# Altium footprint library EPC_2021Q2b.PcbLib: 28 footprints (part 2 of 2)
Each footprint in its own frame and in the unit in brackets; x right, y up, seen from the top. Pads: shape width x height; smd on the part's side, far side on the other; paste and mask are expansions set on the pad; w line width, h text height; cw(c..) or ccw(c..) is an arc to the next point about the centre after c.
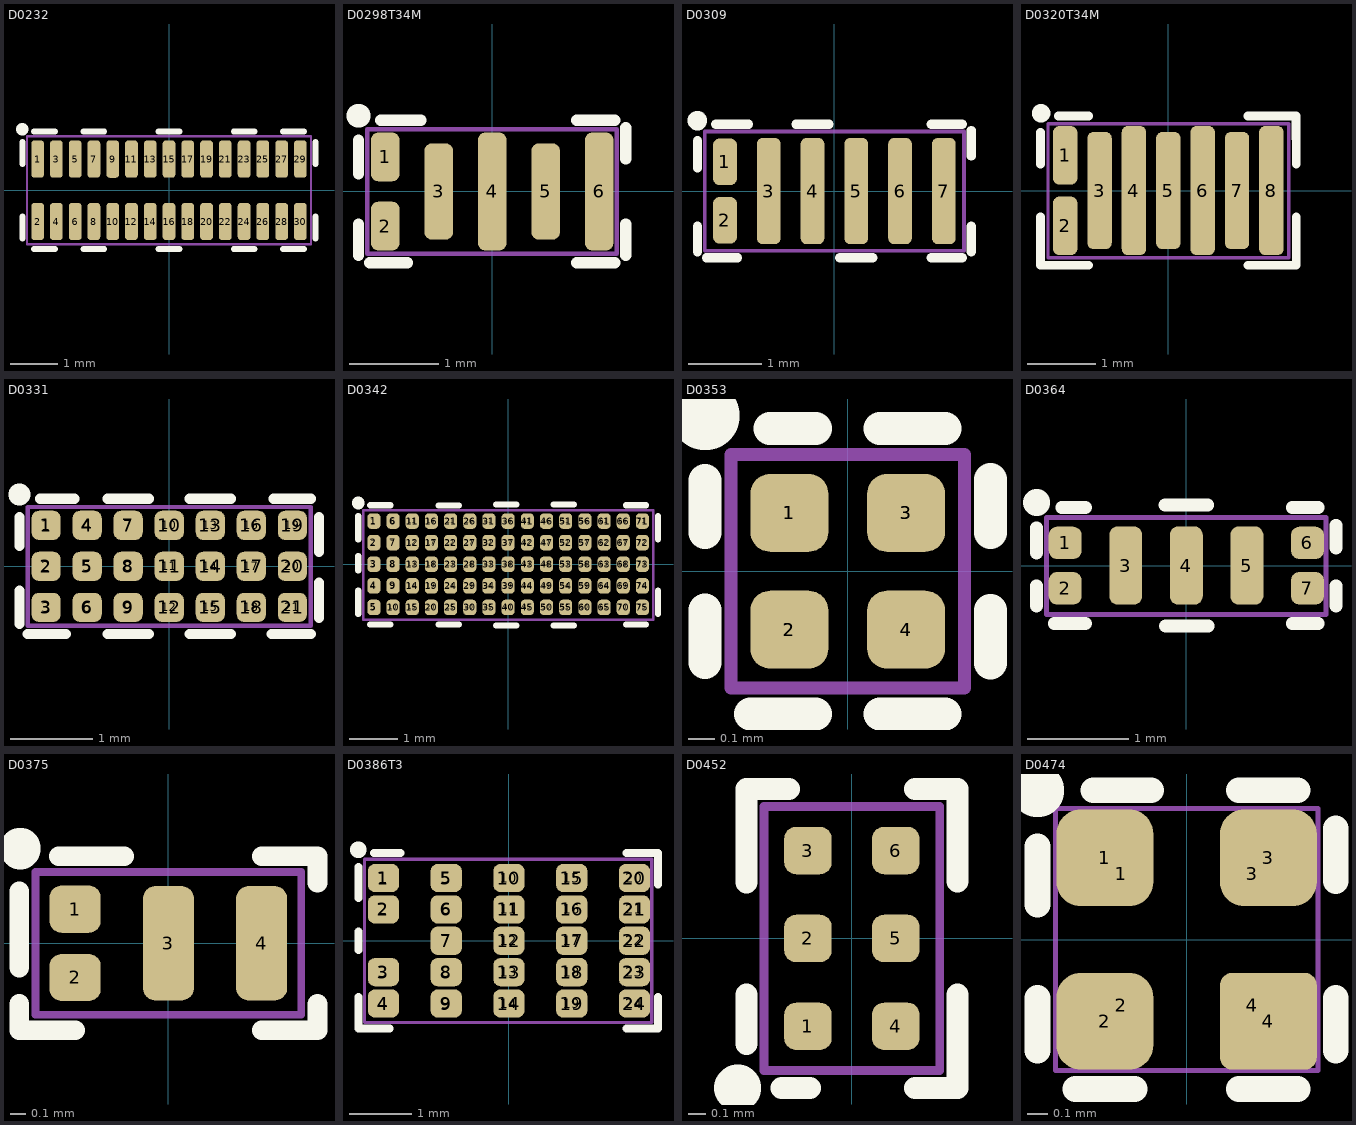
[diagram p1: the footprints below, top view; thin cyan lines are the x and y axes]

## D0232 [mm] "Gen 4 XL Die"
height 0.8
pads (60):
  rrect50% 0.27x0.794 smd paste-0.037 mask-0.274: 1(-2.8,0.665) 2(-2.8,-0.665) 3(-2.4,0.665) 4(-2.4,-0.665) 5(-2,0.665) 7(-1.6,0.665) 8(-1.6,-0.665) 10(-1.2,-0.665) 11(-0.8,0.665) 12(-0.8,-0.665) 13(-0.4,0.665) 14(-0.4,-0.665) 15(0,0.665) 16(0,-0.665) 17(0.4,0.665) 18(0.4,-0.665) 19(0.8,0.665) 20(0.8,-0.665) 21(1.2,0.665) 22(1.2,-0.665) 23(1.6,0.665) 24(1.6,-0.665) 25(2,0.665) 26(2,-0.665) 27(2.4,0.665) 28(2.4,-0.665) 29(2.8,0.665) 30(2.8,-0.665)
  rrect50% 0.27x0.794 smd paste-0.037 mask-0.24: 6(-2,-0.665)
  rrect50% 0.27x0.795 smd paste-0.037 mask-0.274: 9(-1.2,0.665)
  oval 0.18x0.7 on Top Solder paste-0.18 mask+0: ""(-2.8,0.665) ""(-2.8,-0.665) ""(-2.4,0.665) ""(-2.4,-0.665) ""(-2,0.665) ""(-2,-0.665) ""(-1.6,0.665) ""(-1.6,-0.665) ""(-1.2,0.665) ""(-1.2,-0.665) ""(-0.8,0.665) ""(-0.8,-0.665) ""(-0.4,0.665) ""(-0.4,-0.665) ""(0,0.665) ""(0,-0.665) ""(0.4,0.665) ""(0.4,-0.665) ""(0.8,0.665) ""(0.8,-0.665) ""(1.2,0.665) ""(1.2,-0.665) ""(1.6,0.665) ""(1.6,-0.665) ""(2,0.665) ""(2,-0.665) ""(2.4,0.665) ""(2.4,-0.665) ""(2.8,0.665) ""(2.8,-0.665)
Top Overlay:
  circle w0.254: c-3.125,1.3 r0.006
  lines w0.127: -3.125,-1.025 -3.125,-0.56 ; -3.125,0.56 -3.125,1.025 ; -2.874,-1.25 -2.433,-1.25 ; -2.874,1.25 -2.433,1.25 ; -1.82,-1.251 -1.38,-1.251 ; -1.82,1.252 -1.38,1.252 ; -0.22,-1.251 0.22,-1.251 ; -0.22,1.252 0.22,1.252 ; 1.38,-1.251 1.82,-1.251 ; 1.38,1.252 1.82,1.252 ; 2.433,-1.25 2.874,-1.25 ; 2.433,1.25 2.874,1.25 ; 3.125,-1.025 3.125,-0.56 ; 3.125,0.56 3.125,1.025
Mechanical 13:
  lines w0.05: -3.025,-1.15 -3.025,1.15 3.025,1.15 3.025,-1.15 -3.025,-1.15
3D body: height 0.79, standoff 0.78, extent -2.949,0.515 -2.65,0.815
3D body: height 0.2, standoff 0, extent -2.905,-0.925 -2.696,-0.405
3D body: height 0.2, standoff 0, extent -2.897,-1.024 -2.703,-0.827
3D body: height 0.2, standoff 0, extent -2.897,-0.504 -2.703,-0.307
3D body: height 0.2, standoff 0, extent -2.497,-0.504 -2.303,-0.307
3D body: height 0.2, standoff 0, extent -2.497,-1.024 -2.303,-0.827
3D body: height 0.2, standoff 0, extent -2.505,-0.925 -2.296,-0.405
3D body: height 0.2, standoff 0, extent -2.097,-0.504 -1.903,-0.307
3D body: height 0.2, standoff 0, extent -2.097,-1.024 -1.903,-0.827
3D body: height 0.2, standoff 0, extent -2.105,-0.925 -1.896,-0.405
3D body: height 0.2, standoff 0, extent -1.697,-0.504 -1.503,-0.307
3D body: height 0.2, standoff 0, extent -1.697,-1.024 -1.503,-0.827
3D body: height 0.2, standoff 0, extent -1.705,-0.925 -1.496,-0.405
3D body: height 0.2, standoff 0, extent -1.297,-0.504 -1.103,-0.307
3D body: height 0.2, standoff 0, extent -1.297,-1.024 -1.103,-0.827
3D body: height 0.2, standoff 0, extent -1.305,-0.925 -1.096,-0.405
3D body: height 0.2, standoff 0, extent -0.897,-0.504 -0.703,-0.307
3D body: height 0.2, standoff 0, extent -0.897,-1.024 -0.703,-0.827
3D body: height 0.2, standoff 0, extent -0.905,-0.925 -0.696,-0.405
3D body: height 0.2, standoff 0, extent -0.497,-0.504 -0.303,-0.307
3D body: height 0.2, standoff 0, extent -0.497,-1.024 -0.303,-0.827
3D body: height 0.2, standoff 0, extent -0.505,-0.925 -0.296,-0.405
3D body: height 0.2, standoff 0, extent -0.097,-0.504 0.097,-0.307
3D body: height 0.2, standoff 0, extent -0.097,-1.024 0.097,-0.827
3D body: height 0.2, standoff 0, extent -0.105,-0.925 0.104,-0.405
3D body: height 0.2, standoff 0, extent 0.303,-0.504 0.497,-0.307
3D body: height 0.2, standoff 0, extent 0.303,-1.024 0.497,-0.827
3D body: height 0.2, standoff 0, extent 0.295,-0.925 0.504,-0.405
3D body: height 0.2, standoff 0, extent 0.703,-0.504 0.897,-0.307
3D body: height 0.2, standoff 0, extent 0.703,-1.024 0.897,-0.827
3D body: height 0.2, standoff 0, extent 0.695,-0.925 0.904,-0.405
3D body: height 0.2, standoff 0, extent 1.503,-0.504 1.697,-0.307
3D body: height 0.2, standoff 0, extent 1.503,-1.024 1.697,-0.827
3D body: height 0.2, standoff 0, extent 1.495,-0.925 1.704,-0.405
3D body: height 0.2, standoff 0, extent 1.103,-0.504 1.297,-0.307
3D body: height 0.2, standoff 0, extent 1.103,-1.024 1.297,-0.827
3D body: height 0.2, standoff 0, extent 1.095,-0.925 1.304,-0.405
3D body: height 0.2, standoff 0, extent 1.903,-0.504 2.097,-0.307
3D body: height 0.2, standoff 0, extent 1.903,-1.024 2.097,-0.827
3D body: height 0.2, standoff 0, extent 1.895,-0.925 2.104,-0.405
3D body: height 0.2, standoff 0, extent 2.303,-0.504 2.497,-0.307
3D body: height 0.2, standoff 0, extent 2.303,-1.024 2.497,-0.827
3D body: height 0.2, standoff 0, extent 2.295,-0.925 2.504,-0.405
3D body: height 0.2, standoff 0, extent 2.703,-0.504 2.897,-0.307
3D body: height 0.2, standoff 0, extent 2.703,-1.024 2.897,-0.827
3D body: height 0.2, standoff 0, extent 2.695,-0.925 2.904,-0.405
3D body: height 0.2, standoff 0, extent 2.695,0.405 2.904,0.925
3D body: height 0.2, standoff 0, extent 2.703,0.306 2.897,0.503
3D body: height 0.2, standoff 0, extent 2.703,0.826 2.897,1.023
3D body: height 0.2, standoff 0, extent 2.295,0.405 2.504,0.925
3D body: height 0.2, standoff 0, extent 2.303,0.306 2.497,0.503
3D body: height 0.2, standoff 0, extent 2.303,0.826 2.497,1.023
3D body: height 0.2, standoff 0, extent 1.895,0.405 2.104,0.925
3D body: height 0.2, standoff 0, extent 1.903,0.306 2.097,0.503
3D body: height 0.2, standoff 0, extent 1.903,0.826 2.097,1.023
3D body: height 0.2, standoff 0, extent 1.095,0.405 1.304,0.925
3D body: height 0.2, standoff 0, extent 1.103,0.306 1.297,0.503
3D body: height 0.2, standoff 0, extent 1.103,0.826 1.297,1.023
3D body: height 0.2, standoff 0, extent 1.495,0.405 1.704,0.925
3D body: height 0.2, standoff 0, extent 1.503,0.306 1.697,0.503
3D body: height 0.2, standoff 0, extent 1.503,0.826 1.697,1.023
3D body: height 0.2, standoff 0, extent 0.695,0.405 0.904,0.925
3D body: height 0.2, standoff 0, extent 0.703,0.306 0.897,0.503
3D body: height 0.2, standoff 0, extent 0.703,0.826 0.897,1.023
3D body: height 0.2, standoff 0, extent 0.295,0.405 0.504,0.925
3D body: height 0.2, standoff 0, extent 0.303,0.306 0.497,0.503
3D body: height 0.2, standoff 0, extent 0.303,0.826 0.497,1.023
3D body: height 0.2, standoff 0, extent -0.105,0.405 0.104,0.925
3D body: height 0.2, standoff 0, extent -0.097,0.306 0.097,0.503
3D body: height 0.2, standoff 0, extent -0.097,0.826 0.097,1.023
3D body: height 0.2, standoff 0, extent -0.505,0.405 -0.296,0.925
3D body: height 0.2, standoff 0, extent -0.497,0.306 -0.303,0.503
3D body: height 0.2, standoff 0, extent -0.497,0.826 -0.303,1.023
3D body: height 0.2, standoff 0, extent -0.905,0.405 -0.696,0.925
3D body: height 0.2, standoff 0, extent -0.897,0.306 -0.703,0.503
3D body: height 0.2, standoff 0, extent -0.897,0.826 -0.703,1.023
3D body: height 0.2, standoff 0, extent -1.305,0.405 -1.096,0.925
3D body: height 0.2, standoff 0, extent -1.297,0.306 -1.103,0.503
3D body: height 0.2, standoff 0, extent -1.297,0.826 -1.103,1.023
3D body: height 0.2, standoff 0, extent -1.705,0.405 -1.496,0.925
3D body: height 0.2, standoff 0, extent -1.697,0.306 -1.503,0.503
3D body: height 0.2, standoff 0, extent -1.697,0.826 -1.503,1.023
3D body: height 0.2, standoff 0, extent -2.105,0.405 -1.896,0.925
3D body: height 0.2, standoff 0, extent -2.097,0.306 -1.903,0.503
3D body: height 0.2, standoff 0, extent -2.097,0.826 -1.903,1.023
3D body: height 0.2, standoff 0, extent -2.505,0.405 -2.296,0.925
3D body: height 0.2, standoff 0, extent -2.497,0.306 -2.303,0.503
3D body: height 0.2, standoff 0, extent -2.497,0.826 -2.303,1.023
3D body: height 0.2, standoff 0, extent -2.897,0.826 -2.703,1.023
3D body: height 0.2, standoff 0, extent -2.897,0.306 -2.703,0.503
3D body: height 0.2, standoff 0, extent -2.905,0.405 -2.696,0.925
3D body: height 0.78, standoff 0.1, extent -3.025,-1.154 3.025,1.155

## D0298T34M [mm] "EPC2059"
height 0.638
pads (18):
  rrect50% 0.321x0.546 smd paste-1 mask-1: 1(-1.2,0.387) 2(-1.2,-0.387)
  rrect50% 0.321x1.081 smd paste-1 mask-1: 3(-0.6,0) 5(0.6,0)
  rrect50% 0.321x1.321 smd paste-1 mask-1: 4(0,0) 6(1.2,0)
  rrect50% 0.25x0.475 on Top Paste paste-1 mask-1: ""(-1.2,-0.387) ""(-1.2,0.387)
  rrect50% 0.25x0.475 on Top Solder paste-1 mask-1: ""(-1.2,-0.387) ""(-1.2,0.387)
  rrect50% 0.25x1.01 on Top Solder paste-1 mask-1: ""(-0.6,0) ""(0.6,0)
  rrect50% 0.25x1.01 on Top Paste paste-1 mask-1: ""(-0.6,0) ""(0.6,0)
  rrect50% 0.25x1.25 on Top Solder paste-1 mask-1: ""(0,0) ""(1.2,0)
  rrect50% 0.25x1.25 on Top Paste paste-1 mask-1: ""(0,0) ""(1.2,0)
Top Overlay:
  circle w0.254: c-1.5,0.85 r0.006
  lines w0.127: -1.5,-0.715 -1.5,-0.365 ; -1.5,0.2 -1.5,0.575 ; -1.375,-0.8 -0.95,-0.8 ; -1.25,0.8 -0.8,0.8 ; 0.95,-0.8 1.375,-0.8 ; 0.95,0.8 1.375,0.8 ; 1.5,-0.715 1.5,-0.365 ; 1.5,0.365 1.5,0.715
Mechanical 13:
  lines w0.05: -1.4,-0.7 1.4,-0.7 1.4,0.7 -1.4,0.7 -1.4,-0.7
3D body: height 0.25, standoff 0, extent -0.721,0.257 -0.479,0.503
3D body: height 0.25, standoff 0, extent -0.721,-0.503 -0.479,-0.257
3D body: height 0.25, standoff 0, extent -0.725,-0.38 -0.476,0.38
3D body: height 0.25, standoff 0, extent -1.321,0.366 -1.079,0.612
3D body: height 0.25, standoff 0, extent -1.321,0.141 -1.079,0.387
3D body: height 0.25, standoff 0, extent -1.325,0.264 -1.076,0.489
3D body: height 0.25, standoff 0, extent -1.325,-0.5 -1.076,-0.275
3D body: height 0.25, standoff 0, extent -1.321,-0.623 -1.079,-0.377
3D body: height 0.25, standoff 0, extent -1.321,-0.398 -1.079,-0.152
3D body: height 0.64, standoff 0.64, extent -1.325,0.375 -1.076,0.625
3D body: height 0.64, standoff 0.12, extent -1.4,-0.7 1.4,0.7
3D body: height 0.25, standoff 0, extent -0.125,-0.5 0.124,0.5
3D body: height 0.25, standoff 0, extent -0.121,-0.623 0.121,-0.377
3D body: height 0.25, standoff 0, extent -0.121,0.377 0.121,0.623
3D body: height 0.25, standoff 0, extent 1.079,0.377 1.321,0.623
3D body: height 0.25, standoff 0, extent 1.079,-0.623 1.321,-0.377
3D body: height 0.25, standoff 0, extent 1.075,-0.5 1.324,0.5
3D body: height 0.25, standoff 0, extent 0.475,-0.38 0.724,0.38
3D body: height 0.25, standoff 0, extent 0.479,-0.503 0.721,-0.257
3D body: height 0.25, standoff 0, extent 0.479,0.257 0.721,0.503

## D0309 [mm]
height 0.8
pads (14):
  rrect50% 0.325x0.635 smd paste-0.048 mask-0.325: 1(-1.5,0.401) 2(-1.5,-0.401)
  rrect50% 0.325x1.457 smd paste-0.048 mask-0.325: 3(-0.9,0) 4(-0.3,0) 5(0.3,0) 6(0.9,0) 7(1.5,0)
  oval 0.23x0.56 on Top Solder: ""(-1.5,-0.401) ""(-1.5,0.401)
  oval 0.23x1.362 on Top Solder: ""(-0.9,0) ""(-0.3,0) ""(0.3,0) ""(0.9,0) ""(1.5,0)
Top Overlay:
  circle w0.254: c-1.877,0.966 r0.006
  lines w0.127: -1.877,-0.831 -1.877,-0.481 ; -1.877,0.316 -1.877,0.691 ; -1.752,-0.916 -1.327,-0.916 ; -1.627,0.916 -1.177,0.916 ; -0.525,0.916 -0.075,0.916 ; 0.075,-0.916 0.525,-0.916 ; 1.327,-0.916 1.752,-0.916 ; 1.327,0.916 1.752,0.916 ; 1.877,-0.831 1.877,-0.481 ; 1.877,0.481 1.877,0.831
Mechanical 13:
  lines w0.05: -1.777,-0.816 1.777,-0.816 1.777,0.816 -1.777,0.816 -1.777,-0.816
3D body: height 0.25, standoff 0, extent -1.621,0.444 -1.379,0.69
3D body: height 0.25, standoff 0, extent -1.621,0.114 -1.379,0.36
3D body: height 0.25, standoff 0, extent -1.625,0.237 -1.376,0.567
3D body: height 0.25, standoff 0, extent -1.625,-0.565 -1.376,-0.235
3D body: height 0.25, standoff 0, extent -1.621,-0.688 -1.379,-0.442
3D body: height 0.25, standoff 0, extent -1.621,-0.358 -1.379,-0.112
3D body: height 0.25, standoff 0, extent -0.421,0.443 -0.179,0.689
3D body: height 0.25, standoff 0, extent -0.421,-0.689 -0.179,-0.443
3D body: height 0.25, standoff 0, extent -0.425,-0.566 -0.176,0.566
3D body: height 0.78, standoff 0.1, extent -1.775,-0.825 1.775,0.825
3D body: height 0.79, standoff 0.78, extent -1.649,0.251 -1.35,0.551
3D body: height 0.25, standoff 0, extent 0.175,-0.566 0.424,0.566
3D body: height 0.25, standoff 0, extent 0.179,-0.689 0.421,-0.443
3D body: height 0.25, standoff 0, extent 0.179,0.443 0.421,0.689
3D body: height 0.25, standoff 0, extent 0.775,-0.566 1.024,0.566
3D body: height 0.25, standoff 0, extent 0.779,-0.689 1.021,-0.443
3D body: height 0.25, standoff 0, extent 0.779,0.443 1.021,0.689
3D body: height 0.25, standoff 0, extent 1.375,-0.566 1.624,0.566
3D body: height 0.25, standoff 0, extent 1.379,-0.689 1.621,-0.443
3D body: height 0.25, standoff 0, extent 1.379,0.443 1.621,0.689
3D body: height 0.25, standoff 0, extent -1.025,-0.566 -0.776,0.566
3D body: height 0.25, standoff 0, extent -1.021,-0.689 -0.779,-0.443
3D body: height 0.25, standoff 0, extent -1.021,0.443 -0.779,0.689

## D0320T34M [mm]
height 0.638
pads (24):
  rrect50% 0.355x0.85 smd paste-1 mask-1: 1(-1.5,0.513) 2(-1.5,-0.513)
  rrect50% 0.355x1.705 smd paste-1 mask-1: 3(-1,0) 5(0,0) 7(1,0)
  rrect50% 0.355x1.88 smd paste-1 mask-1: 4(-0.5,0) 6(0.5,0) 8(1.5,0)
  oval 0.23x0.755 on Top Solder mask-1: ""(-1.5,-0.513) ""(-1.5,0.513)
  rrect50% 0.23x0.755 on Top Paste mask-1: ""(-1.5,-0.513) ""(-1.5,0.513)
  oval 0.23x1.605 on Top Solder mask-1: ""(-1,0) ""(0,0) ""(1,0)
  rrect50% 0.23x1.605 on Top Paste mask-1: ""(-1,0) ""(0,0) ""(1,0)
  oval 0.23x1.78 on Top Solder mask-1: ""(-0.5,0) ""(0.5,0) ""(1.5,0)
  rrect50% 0.23x1.78 on Top Paste mask-1: ""(-0.5,0) ""(0.5,0) ""(1.5,0)
Top Overlay:
  circle w0.254: c-1.85,1.125 r0.006
  lines w0.127: -1.86,-0.385 -1.86,-1.085 -1.16,-1.085 ; -1.86,0.385 -1.86,0.85 ; -1.599,1.085 -1.158,1.085 ; 1.16,-1.085 1.86,-1.085 1.86,-0.385 ; 1.16,1.085 1.86,1.085 ; 1.858,1.085 1.86,0.385
Mechanical 13:
  lines w0.05: -1.75,-0.975 1.75,-0.975 1.75,0.975 -1.75,0.975 -1.75,-0.975
3D body "3D_EPClogo3mm.step": height 0.64, standoff 0.64, extent -1.394,-0.65 1.594,0.699
3D body: height 0.25, standoff 0, extent -1.625,-0.775 -1.376,-0.251
3D body: height 0.25, standoff 0, extent -1.621,-0.899 -1.379,-0.652
3D body: height 0.25, standoff 0, extent -1.621,-0.374 -1.379,-0.127
3D body: height 0.65, standoff 0.64, extent -1.649,0.6 -1.351,0.9
3D body: height 0.25, standoff 0, extent -1.621,0.652 -1.379,0.899
3D body: height 0.25, standoff 0, extent -1.621,0.127 -1.379,0.374
3D body: height 0.25, standoff 0, extent -1.625,0.251 -1.376,0.775
3D body: height 0.25, standoff 0, extent -1.121,0.565 -0.879,0.811
3D body: height 0.25, standoff 0, extent -1.121,-0.811 -0.879,-0.565
3D body: height 0.25, standoff 0, extent -1.125,-0.688 -0.876,0.687
3D body: height 0.25, standoff 0, extent -0.625,-0.775 -0.376,0.775
3D body: height 0.25, standoff 0, extent -0.621,-0.898 -0.379,-0.652
3D body: height 0.25, standoff 0, extent -0.621,0.652 -0.379,0.898
3D body: height 0.25, standoff 0, extent 0.379,0.652 0.621,0.898
3D body: height 0.25, standoff 0, extent 0.379,-0.898 0.621,-0.652
3D body: height 0.25, standoff 0, extent 0.375,-0.775 0.624,0.775
3D body: height 0.25, standoff 0, extent -0.125,-0.688 0.124,0.687
3D body: height 0.25, standoff 0, extent -0.121,-0.811 0.121,-0.565
3D body: height 0.25, standoff 0, extent -0.121,0.565 0.121,0.811
3D body: height 0.25, standoff 0, extent 1.379,0.652 1.621,0.898
3D body: height 0.25, standoff 0, extent 1.379,-0.898 1.621,-0.652
3D body: height 0.25, standoff 0, extent 1.375,-0.775 1.624,0.775
3D body: height 0.25, standoff 0, extent 0.875,-0.688 1.124,0.687
3D body: height 0.25, standoff 0, extent 0.879,-0.811 1.121,-0.565
3D body: height 0.25, standoff 0, extent 0.879,0.565 1.121,0.811
3D body: height 0.64, standoff 0.12, extent -1.75,-0.975 1.75,0.975
3D body: height 0.25, standoff 0, extent -0.663,1.85 -0.663,1.85
3D body: height 0.25, standoff 0, extent -0.663,1.85 -0.663,1.85

## D0331 [mm] "Gen 5 100 V HB"
height 0.8
pads (42):
  rrect50% 0.355x0.355 smd paste-0.04 mask-0.17: 1(-1.5,0.5) 2(-1.5,0) 3(-1.5,-0.5) 4(-1,0.5) 5(-1,0) 6(-1,-0.5) 7(-0.5,0.5) 8(-0.5,0) 9(-0.5,-0.5) 10(0,0.5) 11(0,0) 12(0,-0.5) 13(0.5,0.5) 14(0.5,0) 15(0.5,-0.5) 16(1,0.5) 17(1,0) 18(1,-0.5) 19(1.5,0.5) 20(1.5,0) 21(1.5,-0.5)
  round 0.23 on Top Solder paste+0 mask+0: 1(-1.5,0.5) 2(-1.5,0) 3(-1.5,-0.5) 4(-1,0.5) 5(-1,0) 6(-1,-0.5) 7(-0.5,0.5) 8(-0.5,0) 9(-0.5,-0.5) 10(0,0.5) 11(0,0) 12(0,-0.5) 13(0.5,0.5) 14(0.5,0) 15(0.5,-0.5) 16(1,0.5) 17(1,0) 18(1,-0.5) 19(1.5,0.5) 20(1.5,0) 21(1.5,-0.5)
Top Overlay:
  circle w0.254: c-1.825,0.875 r0.006
  lines w0.127: -1.825,-0.7 -1.825,-0.3 ; -1.825,0.25 -1.825,0.6 ; -1.725,-0.825 -1.26,-0.825 ; -1.575,0.825 -1.154,0.825 ; -0.75,-0.825 -0.25,-0.825 ; -0.75,0.825 -0.25,0.825 ; 0.25,-0.825 0.75,-0.825 ; 0.25,0.825 0.75,0.825 ; 1.25,-0.825 1.725,-0.825 ; 1.275,0.825 1.725,0.825 ; 1.825,-0.625 1.825,-0.2 ; 1.825,0.175 1.825,0.6
Mechanical 13:
  lines w0.05: -1.725,-0.725 1.725,-0.725 1.725,0.725 -1.725,0.725 -1.725,-0.725
3D body: height 0.26, standoff -0.01, extent -1.629,-0.65 -1.362,-0.38
3D body: height 0.2, standoff 0.13, extent -1.637,-0.653 -1.362,-0.377
3D body: height 0.26, standoff -0.01, extent -1.629,-0.15 -1.362,0.12
3D body: height 0.2, standoff 0.13, extent -1.637,-0.153 -1.362,0.123
3D body: height 0.26, standoff -0.01, extent -1.629,0.35 -1.362,0.62
3D body: height 0.2, standoff 0.13, extent -1.637,0.347 -1.362,0.623
3D body: height 0.26, standoff -0.01, extent -1.129,-0.65 -0.862,-0.38
3D body: height 0.2, standoff 0.13, extent -1.137,-0.653 -0.862,-0.377
3D body: height 0.26, standoff -0.01, extent -1.129,-0.15 -0.862,0.12
3D body: height 0.2, standoff 0.13, extent -1.137,-0.153 -0.862,0.123
3D body: height 0.26, standoff -0.01, extent -1.129,0.35 -0.862,0.62
3D body: height 0.2, standoff 0.13, extent -1.137,0.347 -0.862,0.623
3D body: height 0.26, standoff -0.01, extent -0.629,-0.65 -0.362,-0.38
3D body: height 0.2, standoff 0.13, extent -0.637,-0.653 -0.362,-0.377
3D body: height 0.26, standoff -0.01, extent -0.629,-0.15 -0.362,0.12
3D body: height 0.2, standoff 0.13, extent -0.637,-0.153 -0.362,0.123
3D body: height 0.26, standoff -0.01, extent -0.629,0.35 -0.362,0.62
3D body: height 0.2, standoff 0.13, extent -0.637,0.347 -0.362,0.623
3D body: height 0.26, standoff -0.01, extent -0.129,-0.65 0.138,-0.38
3D body: height 0.2, standoff 0.13, extent -0.137,-0.653 0.138,-0.377
3D body: height 0.26, standoff -0.01, extent -0.129,-0.15 0.138,0.12
3D body: height 0.2, standoff 0.13, extent -0.137,-0.153 0.138,0.123
3D body: height 0.26, standoff -0.01, extent -0.129,0.35 0.138,0.62
3D body: height 0.2, standoff 0.13, extent -0.137,0.347 0.138,0.623
3D body: height 0.26, standoff -0.01, extent 0.371,-0.65 0.638,-0.38
3D body: height 0.2, standoff 0.13, extent 0.363,-0.653 0.638,-0.377
3D body: height 0.26, standoff -0.01, extent 0.371,-0.15 0.638,0.12
3D body: height 0.2, standoff 0.13, extent 0.363,-0.153 0.638,0.123
3D body: height 0.26, standoff -0.01, extent 0.371,0.35 0.638,0.62
3D body: height 0.2, standoff 0.13, extent 0.363,0.347 0.638,0.623
3D body: height 0.26, standoff -0.01, extent 0.871,-0.65 1.138,-0.38
3D body: height 0.2, standoff 0.13, extent 0.863,-0.653 1.138,-0.377
3D body: height 0.26, standoff -0.01, extent 0.871,-0.15 1.138,0.12
3D body: height 0.2, standoff 0.13, extent 0.863,-0.153 1.138,0.123
3D body: height 0.26, standoff -0.01, extent 0.871,0.35 1.138,0.62
3D body: height 0.2, standoff 0.13, extent 0.863,0.347 1.138,0.623
3D body: height 0.2, standoff 0.13, extent 1.363,0.347 1.638,0.623
3D body: height 0.26, standoff -0.01, extent 1.371,0.35 1.638,0.62
3D body: height 0.2, standoff 0.13, extent 1.363,-0.153 1.638,0.123
3D body: height 0.26, standoff -0.01, extent 1.371,-0.15 1.638,0.12
3D body: height 0.2, standoff 0.13, extent 1.363,-0.653 1.638,-0.377
3D body: height 0.26, standoff -0.01, extent 1.371,-0.65 1.638,-0.38
3D body: height 0.81, standoff 0.15, extent -1.725,-0.725 1.725,0.725
3D body: height 0.82, standoff 0.81, extent -1.649,0.35 -1.35,0.65

## D0342 [mm]
height 0.8
pads (150):
  round 0.2 on Top Solder paste+0 mask+0: 1(-2.8,0.9) 2(-2.8,0.45) 3(-2.8,0) 4(-2.8,-0.45) 5(-2.8,-0.9) 6(-2.4,0.9) 7(-2.4,0.45) 8(-2.4,0) 9(-2.4,-0.45) 10(-2.4,-0.9) 11(-2,0.9) 12(-2,0.45) 13(-2,0) 14(-2,-0.45) 15(-2,-0.9) 16(-1.6,0.9) 17(-1.6,0.45) 18(-1.6,0) 19(-1.6,-0.45) 20(-1.6,-0.9) 21(-1.2,0.9) 22(-1.2,0.45) 23(-1.2,0) 24(-1.2,-0.45) 25(-1.2,-0.9) 26(-0.8,0.9) 27(-0.8,0.45) 28(-0.8,0) 29(-0.8,-0.45) 30(-0.8,-0.9) 31(-0.4,0.9) 32(-0.4,0.45) 33(-0.4,0) 34(-0.4,-0.45) 35(-0.4,-0.9) 36(0,0.9) 37(0,0.45) 38(0,0) 39(0,-0.45) 40(0,-0.9) 41(0.4,0.9) 42(0.4,0.45) 43(0.4,0) 44(0.4,-0.45) 45(0.4,-0.9) 46(0.8,0.9) 47(0.8,0.45) 48(0.8,0) 49(0.8,-0.45) 50(0.8,-0.9) 51(1.2,0.9) 52(1.2,0.45) 53(1.2,0) 54(1.2,-0.45) 55(1.2,-0.9) 56(1.6,0.9) 57(1.6,0.45) 58(1.6,0) 59(1.6,-0.45) 60(1.6,-0.9) 61(2,0.9) 62(2,0.45) 63(2,0) 64(2,-0.45) 65(2,-0.9) 66(2.4,0.9) 67(2.4,0.45) 68(2.4,0) 69(2.4,-0.45) 70(2.4,-0.9) 71(2.8,0.9) 72(2.8,0.45) 73(2.8,0) 74(2.8,-0.45) 75(2.8,-0.9)
  rrect60% 0.273x0.323 smd paste-0.024 mask-0.14: 1(-2.8,0.9) 2(-2.8,0.45) 3(-2.8,0) 4(-2.8,-0.45) 5(-2.8,-0.9) 6(-2.4,0.9) 7(-2.4,0.45) 8(-2.4,0) 9(-2.4,-0.45) 10(-2.4,-0.9) 11(-2,0.9) 12(-2,0.45) 13(-2,0) 14(-2,-0.45) 15(-2,-0.9) 16(-1.6,0.9) 17(-1.6,0.45) 18(-1.6,0) 19(-1.6,-0.45) 20(-1.6,-0.9) 21(-1.2,0.9) 22(-1.2,0.45) 23(-1.2,0) 24(-1.2,-0.45) 25(-1.2,-0.9) 26(-0.8,0.9) 27(-0.8,0.45) 28(-0.8,0) 29(-0.8,-0.45) 30(-0.8,-0.9) 31(-0.4,0.9) 32(-0.4,0.45) 33(-0.4,0) 34(-0.4,-0.45) 35(-0.4,-0.9) 36(0,0.9) 37(0,0.45) 38(0,0) 39(0,-0.45) 40(0,-0.9) 41(0.4,0.9) 42(0.4,0.45) 43(0.4,0) 44(0.4,-0.45) 45(0.4,-0.9) 46(0.8,0.9) 47(0.8,0.45) 48(0.8,0) 49(0.8,-0.45) 50(0.8,-0.9) 51(1.2,0.9) 52(1.2,0.45) 53(1.2,0) 54(1.2,-0.45) 55(1.2,-0.9) 56(1.6,0.9) 57(1.6,0.45) 58(1.6,0) 59(1.6,-0.45) 60(1.6,-0.9) 61(2,0.9) 62(2,0.45) 63(2,0) 64(2,-0.45) 65(2,-0.9) 66(2.4,0.9) 67(2.4,0.45) 68(2.4,0) 69(2.4,-0.45) 70(2.4,-0.9) 71(2.8,0.9) 72(2.8,0.45) 73(2.8,0) 74(2.8,-0.45) 75(2.8,-0.9)
Top Overlay:
  circle w0.254: c-3.125,1.28 r0.006
  lines w0.127: -3.125,-1.035 -3.125,-0.545 ; -3.125,-0.13 -3.125,0.17 ; -3.125,0.515 -3.125,1.005 ; -2.875,-1.26 -2.454,-1.26 ; -2.875,1.23 -2.454,1.23 ; -1.45,-1.26 -1.029,-1.26 ; -1.45,1.23 -1.029,1.23 ; -0.25,-1.275 0.171,-1.275 ; -0.25,1.245 0.171,1.245 ; 0.95,-1.275 1.371,-1.275 ; 0.95,1.245 1.371,1.245 ; 2.454,-1.26 2.875,-1.26 ; 2.454,1.23 2.875,1.23 ; 3.125,-1.035 3.125,-0.545 ; 3.125,0.515 3.125,1.005
Mechanical 13:
  lines w0.05: 3.015,-1.16 -3.025,-1.16 -3.025,1.13 3.025,1.13 3.025,-1.16
3D body: height 0.26, standoff -0.01, extent -2.929,-1.05 -2.662,-0.78
3D body: height 0.2, standoff 0.13, extent -2.937,-1.053 -2.662,-0.777
3D body: height 0.26, standoff -0.01, extent -2.929,-0.6 -2.662,-0.33
3D body: height 0.2, standoff 0.13, extent -2.937,-0.603 -2.662,-0.327
3D body: height 0.26, standoff -0.01, extent -2.929,-0.15 -2.662,0.12
3D body: height 0.2, standoff 0.13, extent -2.937,-0.153 -2.662,0.123
3D body: height 0.26, standoff -0.01, extent -2.929,0.3 -2.662,0.57
3D body: height 0.2, standoff 0.13, extent -2.937,0.297 -2.662,0.573
3D body: height 0.26, standoff -0.01, extent -2.929,0.75 -2.662,1.02
3D body: height 0.2, standoff 0.13, extent -2.937,0.747 -2.662,1.023
3D body: height 0.26, standoff -0.01, extent -2.529,-1.05 -2.262,-0.78
3D body: height 0.2, standoff 0.13, extent -2.537,-1.053 -2.262,-0.777
3D body: height 0.26, standoff -0.01, extent -2.529,-0.6 -2.262,-0.33
3D body: height 0.2, standoff 0.13, extent -2.537,-0.603 -2.262,-0.327
3D body: height 0.26, standoff -0.01, extent -2.529,-0.15 -2.262,0.12
3D body: height 0.2, standoff 0.13, extent -2.537,-0.153 -2.262,0.123
3D body: height 0.26, standoff -0.01, extent -2.529,0.3 -2.262,0.57
3D body: height 0.2, standoff 0.13, extent -2.537,0.297 -2.262,0.573
3D body: height 0.26, standoff -0.01, extent -2.529,0.75 -2.262,1.02
3D body: height 0.2, standoff 0.13, extent -2.537,0.747 -2.262,1.023
3D body: height 0.26, standoff -0.01, extent -2.129,-1.05 -1.862,-0.78
3D body: height 0.2, standoff 0.13, extent -2.137,-1.053 -1.862,-0.777
3D body: height 0.26, standoff -0.01, extent -2.129,-0.6 -1.862,-0.33
3D body: height 0.2, standoff 0.13, extent -2.137,-0.603 -1.862,-0.327
3D body: height 0.26, standoff -0.01, extent -2.129,-0.15 -1.862,0.12
3D body: height 0.2, standoff 0.13, extent -2.137,-0.153 -1.862,0.123
3D body: height 0.26, standoff -0.01, extent -2.129,0.3 -1.862,0.57
3D body: height 0.2, standoff 0.13, extent -2.137,0.297 -1.862,0.573
3D body: height 0.26, standoff -0.01, extent -2.129,0.75 -1.862,1.02
3D body: height 0.2, standoff 0.13, extent -2.137,0.747 -1.862,1.023
3D body: height 0.26, standoff -0.01, extent -1.729,-1.05 -1.462,-0.78
3D body: height 0.2, standoff 0.13, extent -1.737,-1.053 -1.462,-0.777
3D body: height 0.26, standoff -0.01, extent -1.729,-0.6 -1.462,-0.33
3D body: height 0.2, standoff 0.13, extent -1.737,-0.603 -1.462,-0.327
3D body: height 0.26, standoff -0.01, extent -1.729,-0.15 -1.462,0.12
3D body: height 0.2, standoff 0.13, extent -1.737,-0.153 -1.462,0.123
3D body: height 0.26, standoff -0.01, extent -1.729,0.3 -1.462,0.57
3D body: height 0.2, standoff 0.13, extent -1.737,0.297 -1.462,0.573
3D body: height 0.26, standoff -0.01, extent -1.729,0.75 -1.462,1.02
3D body: height 0.2, standoff 0.13, extent -1.737,0.747 -1.462,1.023
3D body: height 0.26, standoff -0.01, extent -1.329,-1.05 -1.062,-0.78
3D body: height 0.2, standoff 0.13, extent -1.337,-1.053 -1.062,-0.777
3D body: height 0.26, standoff -0.01, extent -1.329,-0.6 -1.062,-0.33
3D body: height 0.2, standoff 0.13, extent -1.337,-0.603 -1.062,-0.327
3D body: height 0.26, standoff -0.01, extent -1.329,-0.15 -1.062,0.12
3D body: height 0.2, standoff 0.13, extent -1.337,-0.153 -1.062,0.123
3D body: height 0.26, standoff -0.01, extent -1.329,0.3 -1.062,0.57
3D body: height 0.2, standoff 0.13, extent -1.337,0.297 -1.062,0.573
3D body: height 0.26, standoff -0.01, extent -1.329,0.75 -1.062,1.02
3D body: height 0.2, standoff 0.13, extent -1.337,0.747 -1.062,1.023
3D body: height 0.26, standoff -0.01, extent -0.929,-1.05 -0.662,-0.78
3D body: height 0.2, standoff 0.13, extent -0.937,-1.053 -0.662,-0.777
3D body: height 0.26, standoff -0.01, extent -0.929,-0.6 -0.662,-0.33
3D body: height 0.2, standoff 0.13, extent -0.937,-0.603 -0.662,-0.327
3D body: height 0.26, standoff -0.01, extent -0.929,-0.15 -0.662,0.12
3D body: height 0.2, standoff 0.13, extent -0.937,-0.153 -0.662,0.123
3D body: height 0.26, standoff -0.01, extent -0.929,0.3 -0.662,0.57
3D body: height 0.2, standoff 0.13, extent -0.937,0.297 -0.662,0.573
3D body: height 0.26, standoff -0.01, extent -0.929,0.75 -0.662,1.02
3D body: height 0.2, standoff 0.13, extent -0.937,0.747 -0.662,1.023
3D body: height 0.26, standoff -0.01, extent -0.529,-1.05 -0.262,-0.78
3D body: height 0.2, standoff 0.13, extent -0.537,-1.053 -0.262,-0.777
3D body: height 0.26, standoff -0.01, extent -0.529,-0.6 -0.262,-0.33
3D body: height 0.2, standoff 0.13, extent -0.537,-0.603 -0.262,-0.327
3D body: height 0.26, standoff -0.01, extent -0.529,-0.15 -0.262,0.12
3D body: height 0.2, standoff 0.13, extent -0.537,-0.153 -0.262,0.123
3D body: height 0.26, standoff -0.01, extent -0.529,0.3 -0.262,0.57
3D body: height 0.2, standoff 0.13, extent -0.537,0.297 -0.262,0.573
3D body: height 0.26, standoff -0.01, extent -0.529,0.75 -0.262,1.02
3D body: height 0.2, standoff 0.13, extent -0.537,0.747 -0.262,1.023
3D body: height 0.26, standoff -0.01, extent -0.129,-1.05 0.138,-0.78
3D body: height 0.2, standoff 0.13, extent -0.137,-1.053 0.138,-0.777
3D body: height 0.26, standoff -0.01, extent -0.129,-0.6 0.138,-0.33
3D body: height 0.2, standoff 0.13, extent -0.137,-0.603 0.138,-0.327
3D body: height 0.26, standoff -0.01, extent -0.129,-0.15 0.138,0.12
3D body: height 0.2, standoff 0.13, extent -0.137,-0.153 0.138,0.123
3D body: height 0.26, standoff -0.01, extent -0.129,0.3 0.138,0.57
3D body: height 0.2, standoff 0.13, extent -0.137,0.297 0.138,0.573
3D body: height 0.26, standoff -0.01, extent -0.129,0.75 0.138,1.02
3D body: height 0.2, standoff 0.13, extent -0.137,0.747 0.138,1.023
3D body: height 0.26, standoff -0.01, extent 0.271,-1.05 0.538,-0.78
3D body: height 0.2, standoff 0.13, extent 0.263,-1.053 0.538,-0.777
3D body: height 0.26, standoff -0.01, extent 0.271,-0.6 0.538,-0.33
3D body: height 0.2, standoff 0.13, extent 0.263,-0.603 0.538,-0.327
3D body: height 0.26, standoff -0.01, extent 0.271,-0.15 0.538,0.12
3D body: height 0.2, standoff 0.13, extent 0.263,-0.153 0.538,0.123
3D body: height 0.26, standoff -0.01, extent 0.271,0.3 0.538,0.57
3D body: height 0.2, standoff 0.13, extent 0.263,0.297 0.538,0.573
3D body: height 0.26, standoff -0.01, extent 0.271,0.75 0.538,1.02
3D body: height 0.2, standoff 0.13, extent 0.263,0.747 0.538,1.023
3D body: height 0.26, standoff -0.01, extent 0.671,-1.05 0.938,-0.78
3D body: height 0.2, standoff 0.13, extent 0.663,-1.053 0.938,-0.777
3D body: height 0.26, standoff -0.01, extent 0.671,-0.6 0.938,-0.33
3D body: height 0.2, standoff 0.13, extent 0.663,-0.603 0.938,-0.327
3D body: height 0.26, standoff -0.01, extent 0.671,-0.15 0.938,0.12
3D body: height 0.2, standoff 0.13, extent 0.663,-0.153 0.938,0.123
3D body: height 0.26, standoff -0.01, extent 0.671,0.3 0.938,0.57
3D body: height 0.2, standoff 0.13, extent 0.663,0.297 0.938,0.573
3D body: height 0.26, standoff -0.01, extent 0.671,0.75 0.938,1.02
3D body: height 0.2, standoff 0.13, extent 0.663,0.747 0.938,1.023
3D body: height 0.26, standoff -0.01, extent 1.071,-1.05 1.338,-0.78
3D body: height 0.2, standoff 0.13, extent 1.063,-1.053 1.338,-0.777
3D body: height 0.26, standoff -0.01, extent 1.071,-0.6 1.338,-0.33
3D body: height 0.2, standoff 0.13, extent 1.063,-0.603 1.338,-0.327
3D body: height 0.26, standoff -0.01, extent 1.071,-0.15 1.338,0.12
3D body: height 0.2, standoff 0.13, extent 1.063,-0.153 1.338,0.123
3D body: height 0.26, standoff -0.01, extent 1.071,0.3 1.338,0.57
3D body: height 0.2, standoff 0.13, extent 1.063,0.297 1.338,0.573
3D body: height 0.26, standoff -0.01, extent 1.071,0.75 1.338,1.02
3D body: height 0.2, standoff 0.13, extent 1.063,0.747 1.338,1.023
3D body: height 0.26, standoff -0.01, extent 1.471,-1.05 1.738,-0.78
3D body: height 0.2, standoff 0.13, extent 1.463,-1.053 1.738,-0.777
3D body: height 0.26, standoff -0.01, extent 1.471,-0.6 1.738,-0.33
3D body: height 0.2, standoff 0.13, extent 1.463,-0.603 1.738,-0.327
3D body: height 0.26, standoff -0.01, extent 1.471,-0.15 1.738,0.12
3D body: height 0.2, standoff 0.13, extent 1.463,-0.153 1.738,0.123
3D body: height 0.26, standoff -0.01, extent 1.471,0.3 1.738,0.57
3D body: height 0.2, standoff 0.13, extent 1.463,0.297 1.738,0.573
3D body: height 0.26, standoff -0.01, extent 1.471,0.75 1.738,1.02
3D body: height 0.2, standoff 0.13, extent 1.463,0.747 1.738,1.023
3D body: height 0.26, standoff -0.01, extent 1.871,-1.05 2.138,-0.78
3D body: height 0.2, standoff 0.13, extent 1.863,-1.053 2.138,-0.777
3D body: height 0.26, standoff -0.01, extent 1.871,-0.6 2.138,-0.33
3D body: height 0.2, standoff 0.13, extent 1.863,-0.603 2.138,-0.327
3D body: height 0.26, standoff -0.01, extent 1.871,-0.15 2.138,0.12
3D body: height 0.2, standoff 0.13, extent 1.863,-0.153 2.138,0.123
3D body: height 0.26, standoff -0.01, extent 1.871,0.3 2.138,0.57
3D body: height 0.2, standoff 0.13, extent 1.863,0.297 2.138,0.573
3D body: height 0.26, standoff -0.01, extent 1.871,0.75 2.138,1.02
3D body: height 0.2, standoff 0.13, extent 1.863,0.747 2.138,1.023
3D body: height 0.26, standoff -0.01, extent 2.271,-1.05 2.538,-0.78
3D body: height 0.2, standoff 0.13, extent 2.263,-1.053 2.538,-0.777
3D body: height 0.26, standoff -0.01, extent 2.271,-0.6 2.538,-0.33
3D body: height 0.2, standoff 0.13, extent 2.263,-0.603 2.538,-0.327
3D body: height 0.26, standoff -0.01, extent 2.271,-0.15 2.538,0.12
3D body: height 0.2, standoff 0.13, extent 2.263,-0.153 2.538,0.123
3D body: height 0.26, standoff -0.01, extent 2.271,0.3 2.538,0.57
3D body: height 0.2, standoff 0.13, extent 2.263,0.297 2.538,0.573
3D body: height 0.26, standoff -0.01, extent 2.271,0.75 2.538,1.02
3D body: height 0.2, standoff 0.13, extent 2.263,0.747 2.538,1.023
3D body: height 0.2, standoff 0.13, extent 2.663,0.747 2.938,1.023
3D body: height 0.26, standoff -0.01, extent 2.671,0.75 2.938,1.02
3D body: height 0.2, standoff 0.13, extent 2.663,0.297 2.938,0.573
3D body: height 0.26, standoff -0.01, extent 2.671,0.3 2.938,0.57
3D body: height 0.2, standoff 0.13, extent 2.663,-0.153 2.938,0.123
3D body: height 0.26, standoff -0.01, extent 2.671,-0.15 2.938,0.12
3D body: height 0.2, standoff 0.13, extent 2.663,-0.603 2.938,-0.327
3D body: height 0.26, standoff -0.01, extent 2.671,-0.6 2.938,-0.33
3D body: height 0.2, standoff 0.13, extent 2.663,-1.053 2.938,-0.777
3D body: height 0.26, standoff -0.01, extent 2.671,-1.05 2.938,-0.78
3D body: height 0.81, standoff 0.15, extent -3.025,-1.16 3.015,1.13
3D body: height 0.82, standoff 0.81, extent -2.949,0.75 -2.65,1.05

## D0353 [mm]
height 1.2
pads (8):
  rrect50% 0.3x0.3 smd paste-0.025 mask-0.148: 1(-0.225,0.225) 2(-0.225,-0.225) 3(0.225,0.225) 4(0.225,-0.225)
  round 0.2 on Top Solder paste+0 mask+0: 1(-0.225,0.225) 2(-0.225,-0.225) 3(0.225,0.225) 4(0.225,-0.225)
Top Overlay:
  circle w0.254: c-0.55,0.6 r0.006
  lines w0.127: -0.55,-0.353 -0.55,-0.15 ; -0.55,0.15 -0.55,0.35 ; -0.375,-0.55 -0.125,-0.55 ; -0.3,0.55 -0.125,0.55 ; 0.125,-0.55 0.375,-0.55 ; 0.125,0.55 0.375,0.55 ; 0.55,-0.353 0.55,-0.15 ; 0.55,0.15 0.55,0.353
Mechanical 13:
  lines w0.05: -0.45,0.447 -0.447,0.45 ; -0.45,-0.45 -0.45,0.45 0.45,0.45 0.45,-0.45 -0.45,-0.45
3D body "3D_EPClogo0_75mm.step": height 0.82, standoff 0.81, extent -0.289,-0.246 0.425,0.075
3D body: height 0.2, standoff 0.13, extent -0.362,0.072 -0.087,0.348
3D body: height 0.26, standoff -0.01, extent -0.354,0.075 -0.087,0.345
3D body: height 0.2, standoff 0.13, extent 0.088,0.072 0.363,0.348
3D body: height 0.26, standoff -0.01, extent 0.096,0.075 0.363,0.345
3D body: height 0.2, standoff 0.13, extent 0.088,-0.378 0.363,-0.102
3D body: height 0.26, standoff -0.01, extent 0.096,-0.375 0.363,-0.105
3D body: height 0.2, standoff 0.13, extent -0.362,-0.378 -0.087,-0.102
3D body: height 0.26, standoff -0.01, extent -0.354,-0.375 -0.087,-0.105
3D body: height 0.82, standoff 0.81, extent -0.374,0.075 -0.075,0.375
3D body: height 0.81, standoff 0.15, extent -0.45,-0.45 0.45,0.45

## D0364 [mm]
height 0.8
pads (14):
  rrect50% 0.326x0.32 smd paste-0.048 mask-0.326: 1(-1.2,0.225) 2(-1.2,-0.225) 6(1.2,0.225) 7(1.2,-0.225)
  rrect50% 0.326x0.776 smd paste-0.048 mask-0.326: 3(-0.6,0) 4(0,0) 5(0.6,0)
  round 0.23 on Top Solder paste+0 mask+0: ""(-1.2,-0.225) ""(-1.2,0.225) ""(1.2,-0.225) ""(1.2,0.225)
  oval 0.23x0.68 on Top Solder: ""(-0.6,0) ""(0,0) ""(0.6,0)
Top Overlay:
  circle w0.254: c-1.483,0.625 r0.006
  lines w0.127: -1.483,-0.4 -1.483,-0.2 ; -1.483,0.125 -1.483,0.375 ; -1.308,-0.575 -1,-0.575 ; -1.233,0.575 -1,0.575 ; -0.212,0.6 0.213,0.6 ; -0.208,-0.6 0.217,-0.6 ; 1.05,-0.575 1.308,-0.575 ; 1.05,0.575 1.308,0.575 ; 1.483,-0.4 1.483,-0.2 ; 1.483,0.175 1.483,0.4
Mechanical 13:
  lines w0.05: -1.383,-0.485 1.383,-0.485 ; -1.383,-0.475 -1.383,0.475 1.383,0.475 1.383,-0.475
3D body: height 0.24, standoff -0.04, extent 0.46,-0.202 0.735,0.202
3D body: height 0.24, standoff -0.04, extent 0.467,-0.338 0.734,-0.066
3D body: height 0.24, standoff -0.04, extent 0.467,0.066 0.734,0.338
3D body: height 0.24, standoff -0.04, extent -0.14,-0.202 0.135,0.202
3D body: height 0.24, standoff -0.04, extent -0.133,-0.338 0.134,-0.066
3D body: height 0.24, standoff -0.04, extent -0.133,0.066 0.134,0.338
3D body: height 0.24, standoff -0.04, extent -0.733,0.066 -0.466,0.338
3D body: height 0.24, standoff -0.04, extent -0.733,-0.338 -0.466,-0.066
3D body: height 0.24, standoff -0.04, extent -0.74,-0.202 -0.465,0.202
3D body: height 0.2, standoff 0.13, extent 1.063,-0.378 1.338,-0.102
3D body: height 0.26, standoff -0.01, extent 1.071,-0.375 1.338,-0.105
3D body: height 0.2, standoff 0.13, extent 1.063,0.072 1.338,0.348
3D body: height 0.26, standoff -0.01, extent 1.071,0.075 1.338,0.345
3D body: height 0.2, standoff 0.13, extent -1.337,-0.378 -1.062,-0.102
3D body: height 0.26, standoff -0.01, extent -1.329,-0.375 -1.062,-0.105
3D body: height 0.2, standoff 0.13, extent -1.337,0.072 -1.062,0.348
3D body: height 0.26, standoff -0.01, extent -1.329,0.075 -1.062,0.345
3D body: height 0.82, standoff 0.81, extent -1.349,0.075 -1.05,0.375
3D body: height 0.81, standoff 0.15, extent -1.37,-0.48 1.38,0.48

## D0375 [mm]
height 0.8
pads (8):
  rrect50% 0.329x0.304 smd paste-0.048 mask-0.329: 1(-0.6,0.22) 2(-0.6,-0.22)
  rrect50% 0.329x0.738 smd paste-0.048 mask-0.329: 3(0,0) 4(0.6,0)
  round 0.234 on Top Solder paste+0 mask+0: ""(-0.6,-0.205) ""(-0.6,0.205)
  oval 0.234x0.643 on Top Solder paste+0 mask+0: ""(0,0)
  oval 0.234x0.643 on Top Solder: ""(0.6,0)
Top Overlay:
  circle w0.254: c-0.955,0.61 r0.006
  lines w0.127: -0.96,-0.39 -0.96,-0.56 -0.6,-0.56 ; -0.96,-0.156 -0.96,0.335 ; -0.706,0.56 -0.285,0.56 ; 0.6,-0.56 0.96,-0.56 0.96,-0.39 ; 0.6,0.56 0.96,0.56 0.96,0.39
Mechanical 13:
  lines w0.05: -0.855,-0.46 -0.855,0.46 0.855,0.46 0.855,-0.46 -0.855,-0.46
3D body: height 0.24, standoff -0.04, extent 0.467,0.048 0.734,0.32
3D body: height 0.24, standoff -0.04, extent 0.467,-0.32 0.734,-0.048
3D body: height 0.24, standoff -0.04, extent 0.46,-0.183 0.735,0.184
3D body: height 0.24, standoff -0.04, extent -0.14,-0.183 0.135,0.184
3D body: height 0.24, standoff -0.04, extent -0.133,-0.32 0.134,-0.048
3D body: height 0.24, standoff -0.04, extent -0.133,0.048 0.134,0.32
3D body: height 0.26, standoff -0.01, extent -0.729,0.069 -0.462,0.34
3D body: height 0.2, standoff 0.13, extent -0.737,0.067 -0.462,0.342
3D body: height 0.26, standoff -0.01, extent -0.729,-0.355 -0.462,-0.084
3D body: height 0.2, standoff 0.13, extent -0.737,-0.357 -0.462,-0.082
3D body: height 0.82, standoff 0.81, extent -0.749,0.07 -0.45,0.37
3D body: height 0.81, standoff 0.15, extent -0.85,-0.45 0.85,0.45

## D0386T3 [mm]
height 0.8
pads (48):
  rrect50% 0.5x0.45 smd paste-0.075 mask-0.25: 1(-2,1) 2(-2,0.5) 3(-2,-0.5) 4(-2,-1) 5(-1,1) 6(-1,0.5) 7(-1,0) 8(-1,-0.5) 9(-1,-1) 10(0,1) 11(0,0.5) 12(0,0) 13(0,-0.5) 14(0,-1) 15(1,1) 16(1,0.5) 17(1,0) 18(1,-0.5) 19(1,-1) 20(2,1) 21(2,0.5) 22(2,0) 23(2,-0.5) 24(2,-1)
  round 0.33 on Top Solder paste-0.17 mask+0: 1(-2,1) 2(-2,0.5) 3(-2,-0.5) 4(-2,-1) 5(-1,1)
  round 0.33 on Top Solder paste-0.17 mask-0.06: 6(-1,0.5) 7(-1,0) 8(-1,-0.5) 9(-1,-1) 10(0,1) 11(0,0.5) 12(0,0) 13(0,-0.5) 14(0,-1) 15(1,1) 16(1,0.5) 17(1,0) 18(1,-0.5) 19(1,-1) 20(2,1) 21(2,0.5) 22(2,0) 23(2,-0.5) 24(2,-1)
Top Overlay:
  circle w0.254: c-2.4,1.45 r0.006
  lines w0.127: -2.4,-0.9 -2.4,-1.4 -1.9,-1.4 ; -2.4,0.685 -2.4,1.175 ; -2.15,1.4 -1.729,1.4 ; 1.875,-1.4 2.375,-1.4 2.375,-0.9 ; 1.875,1.4 2.375,1.4 2.375,0.9 ; -2.4,-0.15 -2.4,0.15 -2.4,-0.15
Mechanical 13:
  lines w0.05: -2.3,-1.3 -2.3,1.3 2.275,1.3 2.275,-1.3 -2.3,-1.3
3D body: height 0.33, standoff -0.04, extent -2.176,-1.182 -1.815,-0.818
3D body: height 0.84, standoff 0.83, extent -2.149,0.85 -1.85,1.15
3D body: height 0.33, standoff -0.04, extent -2.176,0.818 -1.815,1.182
3D body: height 0.83, standoff 0.2, extent -2.3,-1.3 2.275,1.3
3D body: height 0.33, standoff -0.04, extent -2.176,0.318 -1.815,0.682
3D body: height 0.33, standoff -0.04, extent -2.176,-0.682 -1.815,-0.318
3D body: height 0.33, standoff -0.04, extent -1.176,0.818 -0.815,1.182
3D body: height 0.33, standoff -0.04, extent -1.176,0.318 -0.815,0.682
3D body: height 0.33, standoff -0.04, extent -1.176,-0.182 -0.815,0.182
3D body: height 0.33, standoff -0.04, extent -1.176,-0.682 -0.815,-0.318
3D body: height 0.33, standoff -0.04, extent -1.176,-1.182 -0.815,-0.818
3D body: height 0.33, standoff -0.04, extent -0.176,-1.182 0.185,-0.818
3D body: height 0.33, standoff -0.04, extent -0.176,-0.682 0.185,-0.318
3D body: height 0.33, standoff -0.04, extent -0.176,-0.182 0.185,0.182
3D body: height 0.33, standoff -0.04, extent -0.176,0.318 0.185,0.682
3D body: height 0.33, standoff -0.04, extent -0.176,0.818 0.185,1.182
3D body: height 0.33, standoff -0.04, extent 0.824,-1.182 1.185,-0.818
3D body: height 0.33, standoff -0.04, extent 0.824,-0.682 1.185,-0.318
3D body: height 0.33, standoff -0.04, extent 0.824,-0.182 1.185,0.182
3D body: height 0.33, standoff -0.04, extent 0.824,0.318 1.185,0.682
3D body: height 0.33, standoff -0.04, extent 0.824,0.818 1.185,1.182
3D body: height 0.33, standoff -0.04, extent 1.824,-1.182 2.185,-0.818
3D body: height 0.33, standoff -0.04, extent 1.824,-0.682 2.185,-0.318
3D body: height 0.33, standoff -0.04, extent 1.824,-0.182 2.185,0.182
3D body: height 0.33, standoff -0.04, extent 1.824,0.318 2.185,0.682
3D body: height 0.33, standoff -0.04, extent 1.824,0.818 2.185,1.182

## D0452 [mm] "eGaN IC 2x3 500um pitch BGA"
height 0.8
pads (12):
  rrect50% 0.27x0.27 smd paste-0.01 mask-0.135: 1(-0.25,-0.5) 2(-0.25,0) 3(-0.25,0.5) 4(0.25,-0.5) 5(0.25,0) 6(0.25,0.5)
  round 0.2 on Top Solder paste+0 mask+0: ""(-0.25,-0.5) ""(-0.25,0) ""(-0.25,0.5) ""(0.25,-0.5) ""(0.25,0) ""(0.25,0.5)
Top Overlay:
  circle w0.254: c-0.65,-0.85 r0.006
  lines w0.127: -0.6,-0.599 -0.6,-0.32 ; -0.6,0.32 -0.6,0.85 -0.36,0.85 ; -0.4,-0.85 -0.24,-0.85 ; 0.36,-0.85 0.6,-0.85 0.6,-0.32 ; 0.36,0.85 0.6,0.85 0.6,0.325
Mechanical 13:
  lines w0.05: -0.5,-0.75 -0.5,0.75 0.5,0.75 0.5,-0.75 -0.5,-0.75
3D body "3D_EPClogo1mm.step": height 0.82, standoff 0.81, extent -0.125,-0.473 0.325,0.523
3D body: height 0.81, standoff 0.15, extent -0.5,-0.75 0.5,0.75
3D body: height 0.82, standoff 0.81, extent -0.4,-0.649 -0.1,-0.35
3D body: height 0.2, standoff 0.13, extent -0.388,-0.637 -0.113,-0.362
3D body: height 0.26, standoff -0.01, extent -0.386,-0.629 -0.115,-0.362
3D body: height 0.26, standoff -0.01, extent 0.115,-0.629 0.385,-0.362
3D body: height 0.2, standoff 0.13, extent 0.112,-0.637 0.388,-0.362
3D body: height 0.26, standoff -0.01, extent -0.385,-0.129 -0.115,0.138
3D body: height 0.2, standoff 0.13, extent -0.388,-0.137 -0.112,0.138
3D body: height 0.26, standoff -0.01, extent 0.115,-0.129 0.385,0.138
3D body: height 0.2, standoff 0.13, extent 0.112,-0.137 0.388,0.138
3D body: height 0.26, standoff -0.01, extent -0.385,0.371 -0.115,0.638
3D body: height 0.2, standoff 0.13, extent -0.388,0.363 -0.112,0.638
3D body: height 0.26, standoff -0.01, extent 0.115,0.371 0.385,0.638
3D body: height 0.2, standoff 0.13, extent 0.112,0.363 0.388,0.638

## D0474 [mm] "Gen 5 200 V"
height 0.8
pads (12):
  rrect50% 0.48x0.48 smd paste-0.48 mask-0.48: 1(-0.405,0.405) 2(-0.405,-0.405) 3(0.405,0.405)
  oct 0.25x0.25 on Top Solder paste+0 mask+0: 1(-0.325,0.325) 2(-0.325,-0.325) 3(0.325,0.325) 4(0.325,-0.325)
  rrect25% 0.48x0.48 smd paste-0.48 mask-0.48: 4(0.405,-0.405)
  rrect50% 0.25x0.25 on Top Paste paste-0.035 mask-0.2: ""(-0.325,-0.325) ""(-0.325,0.325) ""(0.325,0.325) ""(0.325,-0.325)
Top Overlay:
  circle w0.254: c-0.74,0.74 r0.006
  lines w0.127: -0.739,-0.551 -0.74,-0.29 ; -0.74,0.172 -0.739,0.463 ; -0.551,-0.741 -0.258,-0.741 ; -0.463,0.741 -0.175,0.741 ; 0.258,-0.741 0.551,-0.741 ; 0.258,0.741 0.551,0.741 ; 0.739,-0.551 0.74,-0.29 ; 0.74,0.29 0.739,0.551
Mechanical 13:
  lines w0.025: -0.2,-0.387 -0.2,-0.262 -0.262,-0.2 -0.262,-0.2 -0.385,-0.2 -0.387,-0.2 -0.387,-0.2 -0.45,-0.262 -0.45,-0.387 -0.387,-0.45 -0.262,-0.45 ; -0.2,0.263 -0.2,0.388 -0.262,0.45 ; -0.2,-0.387 -0.262,-0.45 ; -0.2,0.263 -0.262,0.2 ; -0.387,0.45 -0.45,0.388 -0.45,0.263 -0.387,0.2 -0.262,0.2 ; -0.387,0.45 -0.387,0.45 ; -0.387,0.45 -0.385,0.45 -0.262,0.45 ; -0.262,-0.45 -0.262,-0.45 ; -0.262,0.2 -0.262,0.2 ; -0.262,0.45 -0.262,0.45 ; 0.263,0.45 0.2,0.388 0.2,0.263 0.263,0.2 0.388,0.2 ; 0.263,0.45 0.263,0.45 ; 0.263,0.45 0.265,0.45 0.388,0.45 ; 0.388,-0.45 0.45,-0.387 0.45,-0.262 0.388,-0.2 0.388,-0.2 0.265,-0.2 0.263,-0.2 0.263,-0.2 0.2,-0.262 0.2,-0.387 0.263,-0.45 0.388,-0.45 ; 0.388,-0.45 0.388,-0.45 ; 0.388,0.2 0.45,0.263 0.45,0.388 0.388,0.45 ; 0.388,0.2 0.388,0.2 ; 0.388,0.45 0.388,0.45 ; -0.65,-0.65 0.65,-0.65 0.65,0.65 -0.65,0.65 -0.65,-0.65
3D body: height 0.65, standoff 0.15, extent -0.65,-0.65 0.65,0.65
3D body: height 0.65, standoff 0.65, extent -0.526,0.221 -0.227,0.521
3D body "3D_EPClogo1mm.step": height 0.66, standoff 0.65, extent -0.501,-0.243 0.496,0.207
3D body: height 0.15, standoff 0, extent 0.2,-0.45 0.45,-0.2
3D body: height 0.25, standoff 0, extent 0.265,-0.2 0.265,-0.2
3D body: height 0.15, standoff 0, extent -0.45,-0.45 -0.2,-0.2
3D body: height 0.25, standoff 0, extent -0.385,-0.2 -0.385,-0.2
3D body: height 0.15, standoff 0, extent 0.2,0.2 0.45,0.45
3D body: height 0.25, standoff 0, extent 0.265,0.45 0.265,0.45
3D body: height 0.15, standoff 0, extent -0.45,0.2 -0.2,0.45
3D body: height 0.25, standoff 0, extent -0.385,0.45 -0.385,0.45